# Altium schematic symbol library SCH - DRIVER - GATE - INFINEON 2EDF7275FXUMA2.SchLib: 1 symbol
Pins are listed as number, name and electrical type; pins without a type are passive.

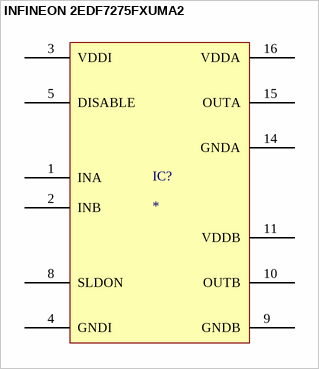
[diagram p0: symbol INFINEON 2EDF7275FXUMA2]

## INFINEON 2EDF7275FXUMA2
designator IC?
pins: 1 INA, 2 INB, 3 VDDI, 4 GNDI, 5 DISABLE, 8 SLDON, 9 GNDB, 10 OUTB, 11 VDDB, 14 GNDA, 15 OUTA, 16 VDDA